# Altium footprint library FlatPack-10.PcbLib: 1 footprints
Each footprint in its own frame and in the unit in brackets; x right, y up, seen from the top. Pads: shape width x height; smd on the part's side, far side on the other; paste and mask are expansions set on the pad; w line width, h text height; cw(c..) or ccw(c..) is an arc to the next point about the centre after c.
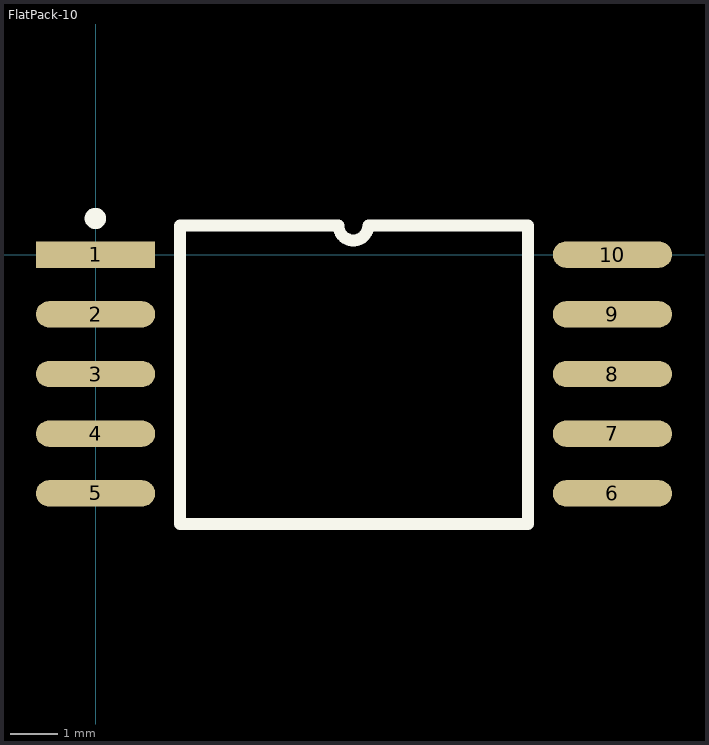
[diagram p0: the footprint, top view; thin cyan lines are the x and y axes]

## FlatPack-10 [mil]
pads (10):
  rect 100x22 smd: 1(0,0)
  oval 100x22 smd: 2(0,-50) 3(0,-100) 4(0,-150) 5(0,-200) 6(433.07,-200) 7(433.07,-150) 8(433.07,-100) 9(433.07,-50) 10(433.07,0)
Top Overlay:
  circle w10: c-0.11,30.32 r3.94
  lines w10: 70.87,-225.64 362.2,-225.64 362.2,24.36 228.5,24.36 cw(c216,24.36) 203.5,24.36 70.87,24.36 70.87,-225.64
3D body "FlatPack-10.step": height 78.74, standoff -4.83, extent 5.83,-228.34 427.24,27.56